# Altium footprint library PC814.PcbLib: 1 footprints
Each footprint in its own frame and in the unit in brackets; x right, y up, seen from the top. Pads: shape width x height; smd on the part's side, far side on the other; paste and mask are expansions set on the pad; w line width, h text height; cw(c..) or ccw(c..) is an arc to the next point about the centre after c.
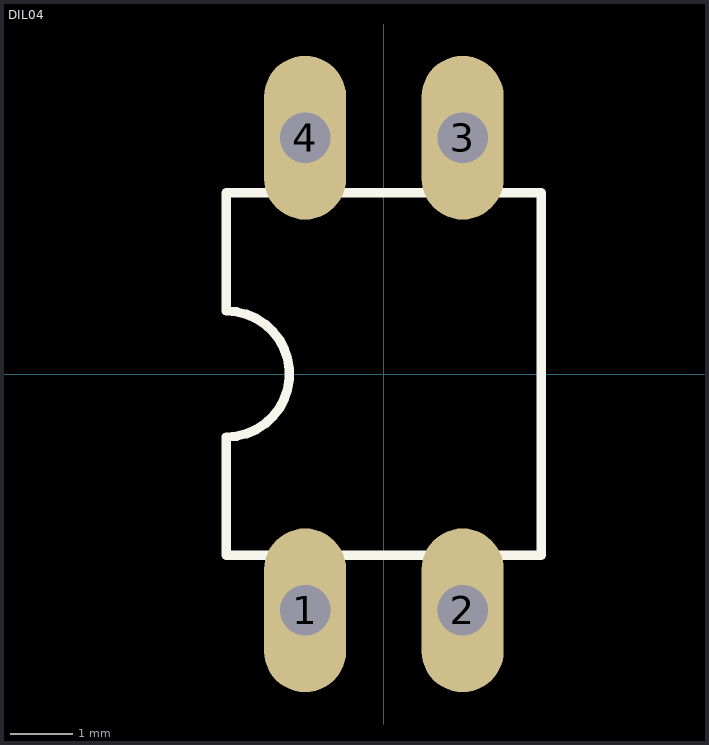
[diagram p0: the footprint, top view; thin cyan lines are the x and y axes]

## DIL04 [mil]
pads (4):
  oval 52x104 hole 32 mask+4.02: 1(-50,-150) 2(50,-150) 3(50,150) 4(-50,150)
Top Overlay:
  lines w6: -100,-115 -100,-40 ccw(c-100,0) -100,40 -100,115 100,115 100,-115 -100,-115
3D body "step_temp.STEP": height 177.17, standoff -118.11, extent -179.76,-90.55 179.76,90.55